# Altium schematic symbol library EMK325ABJ107MM-T.SchLib: 1 symbol
Pins are listed as number, name and electrical type; pins without a type are passive.

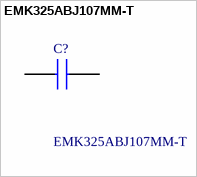
[diagram p0: symbol EMK325ABJ107MM-T]

## EMK325ABJ107MM-T
designator C?
TAIYO YUDEN - EMK325ABJ107MM-T - CAP, MLCC, X5R, 100UF, 16V, 1210; Geometry.Height: 2.7mm; Mouser Part Number: 963-EMK325ABJ107MM-T; Mouser Price/Stock: https://www.mouser.co.uk/ProductDetail/Taiyo-Yuden/EMK325ABJ107MM-T?qs=I6KAKw0tg2y0ShKbEoYruw%3D%3D; Manufacturer_Name: TAIYO YUDEN; Manufacturer_Part_Number: EMK325ABJ107MM-T; Datasheet Link: https://componentsearchengine.com/Datasheets/2/EMK325ABJ107MM-T.pdf
footprint CAPC3225X270N
pins: 1, 2